# Altium schematic symbol library 2020-11-22_16-30-49.SchLib: 2 symbols
Pins are listed as number, name and electrical type; pins without a type are passive.

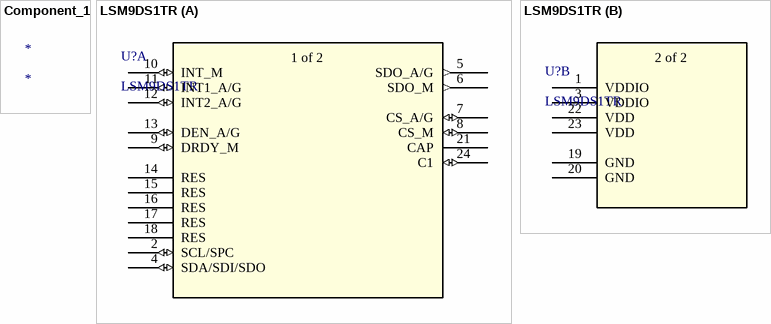
[diagram p0: symbols Component_1 to LSM9DS1TR]

## Component_1
designator *

## LSM9DS1TR
designator U?
No Description Available; SourceLibrary: Updates_to_database_2020-11-03; Built_By: EMA_Jessica; Vendor: STMicroelectronics; Copyright: Copyright (C) 2018 Accelerated Designs. All rights reserved; Manufacturer_Part_Number: LSM9DS1TR; RefDes: RefDes; Type: DEV
footprint LGA-24_3X3P5X1_STM
part A pins: 2 SCL/SPC (io), 4 SDA/SDI/SDO (io), 5 SDO_A/G (out), 6 SDO_M (out), 7 CS_A/G (io), 8 CS_M (io), 9 DRDY_M (io), 10 INT_M (io), 11 INT1_A/G (io), 12 INT2_A/G (io), 13 DEN_A/G (io), 14 RES, 15 RES, 16 RES, 17 RES, 18 RES, 21 CAP, 24 C1 (io)
part B pins: 1 VDDIO (power), 3 VDDIO (power), 19 GND (power), 20 GND (power), 22 VDD (power), 23 VDD (power)
part A text: 1 of 2
part B text: 2 of 2